# EAGLE library part FTDI_SERIAL (library StasDuinoLib2)
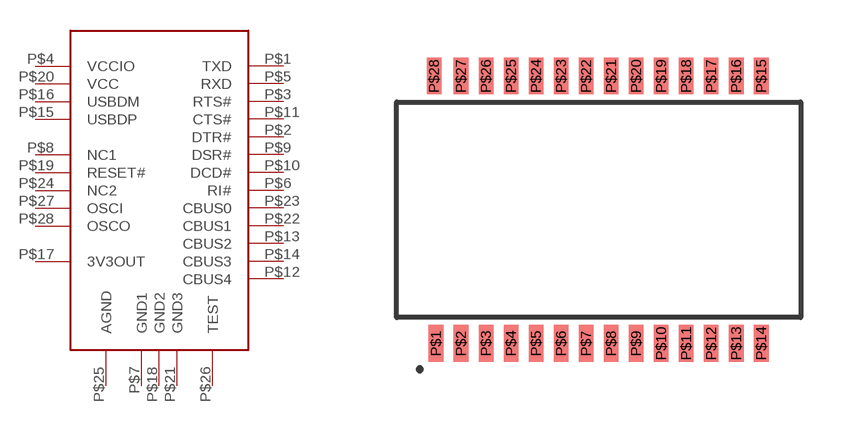
[diagram p1: symbol with the pads of FTDI_SERIAL; footprint FTDI_SERIAL]

Designator prefix -

## FTDI_SERIAL  [FTDI_SERIAL]
P$1  TXD
P$2  DTR#
P$3  RTS#
P$4  VCCIO
P$5  RXD
P$6  RI#
P$7  GND1
P$8  NC1  nc
P$9  DSR#
P$10  DCD#
P$11  CTS#
P$12  CBUS4
P$13  CBUS2
P$14  CBUS3
P$15  USBDP
P$16  USBDM
P$17  3V3OUT
P$18  GND2
P$19  RESET#
P$20  VCC
P$21  GND3
P$22  CBUS1
P$23  CBUS0
P$24  NC2  nc
P$25  AGND
P$26  TEST
P$27  OSCI
P$28  OSCO

## Footprint FTDI_SERIAL (pad centres in mm)
smd 0.38 x 0.95: P$1 -4.225,-3.475; P$2 -3.575,-3.475; P$3 -2.925,-3.475; P$4 -2.275,-3.475; P$5 -1.625,-3.475; P$6 -0.975,-3.475; P$7 -0.325,-3.475; P$8 0.325,-3.475; P$9 0.975,-3.475; P$10 1.625,-3.475; P$11 2.275,-3.475; P$12 2.925,-3.475; P$13 3.575,-3.475; P$14 4.225,-3.475; P$15 4.225,3.475; P$16 3.575,3.475; P$17 2.925,3.475; P$18 2.275,3.475; P$19 1.625,3.475; P$20 0.975,3.475; P$21 0.325,3.475; P$22 -0.325,3.475; P$23 -0.975,3.475; P$24 -1.625,3.475; P$25 -2.275,3.475; P$26 -2.925,3.475; P$27 -3.575,3.475; P$28 -4.275,3.475